# EAGLE library part LOGIC_LEVEL_BIDIRECTIONAL (library Liu-Ford-ACP-AUX)
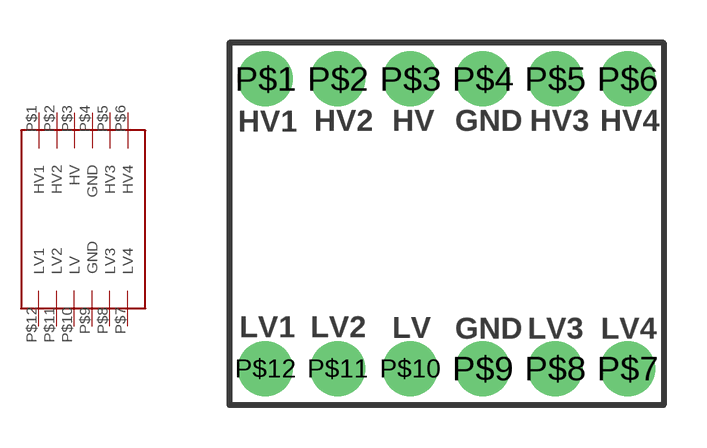
[diagram p3: symbol with the pads of LOGIC_LEVEL_BIDIRECTIONAL_BREAKOUT; footprint LOGIC_LEVEL_BIDIRECTIONAL_BREAKOUT]

Designator prefix IC

## LOGIC_LEVEL_BIDIRECTIONAL  [LOGIC_LEVEL_BIDIRECTIONAL_BREAKOUT]
P$1  HV1  in
P$2  HV2  in
P$3  HV  in
P$4  GND  in
P$5  HV3  in
P$6  HV4  in
P$7  LV4  in
P$8  LV3  in
P$9  GND  in
P$10  LV  in
P$11  LV2  in
P$12  LV1  in

## Footprint LOGIC_LEVEL_BIDIRECTIONAL_BREAKOUT (pad centres in mm)
drill 1.016 pad 1.93: P$1 1.27,11.43; P$2 3.81,11.43; P$3 6.35,11.43; P$4 8.89,11.43; P$5 11.43,11.43; P$6 13.97,11.43; P$7 13.97,1.27; P$8 11.43,1.27; P$9 8.89,1.27; P$10 6.35,1.27; P$11 3.81,1.27; P$12 1.27,1.27